# EAGLE library part SST25WF020A-40I/MF (library Memory)
IC FLASH 2M SPI 40MHZ 8WDFN Manufacturer's datasheet <http://ww1.microchip.com/downloads/en/DeviceDoc/20005139F.pdf>
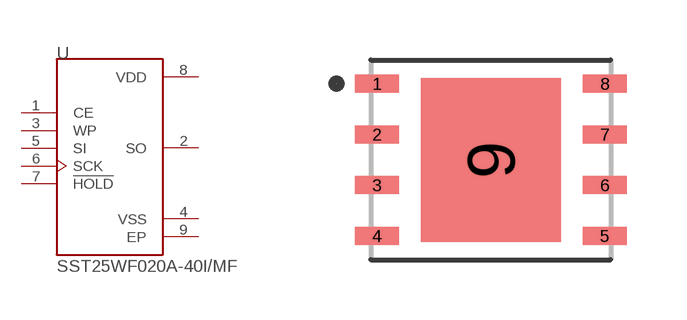
[diagram p1: symbol with the pads of WDFN8; footprint WDFN8]

Designator prefix U

## SST25WF020A-40I/MF (CREATED_BY: PCBLayout.com; DIGIKEY_PARTNO: SST25WF020A-40I/MF-ND; MANUFACTURER: Microchip Technology; MPN: SST25WF020A-40I/MF; PACKAGE: WDFN8)  [WDFN8]
1  CE  in
2  SO  out
3  WP  in
4  VSS  pwr
5  SI  in
6  SCK  in
7  !HOLD  in
8  VDD  pwr
9  EP  pwr

## Footprint WDFN8 (pad centres in mm)
smd 1.1 x 0.45: 1 -2.85,1.905; 2 -2.85,0.635; 3 -2.85,-0.635; 4 -2.85,-1.905; 5 2.85,-1.905; 6 2.85,-0.635; 7 2.85,0.635; 8 2.85,1.905
smd 3.5 x 4.1: 9 0,0